# Altium footprint library CONN_HDR_2.54MM_RA_SMD.PcbLib: 56 footprints (part 2 of 4)
Each footprint in its own frame and in the unit in brackets; x right, y up, seen from the top. Pads: shape width x height; smd on the part's side, far side on the other; paste and mask are expansions set on the pad; w line width, h text height; cw(c..) or ccw(c..) is an arc to the next point about the centre after c.
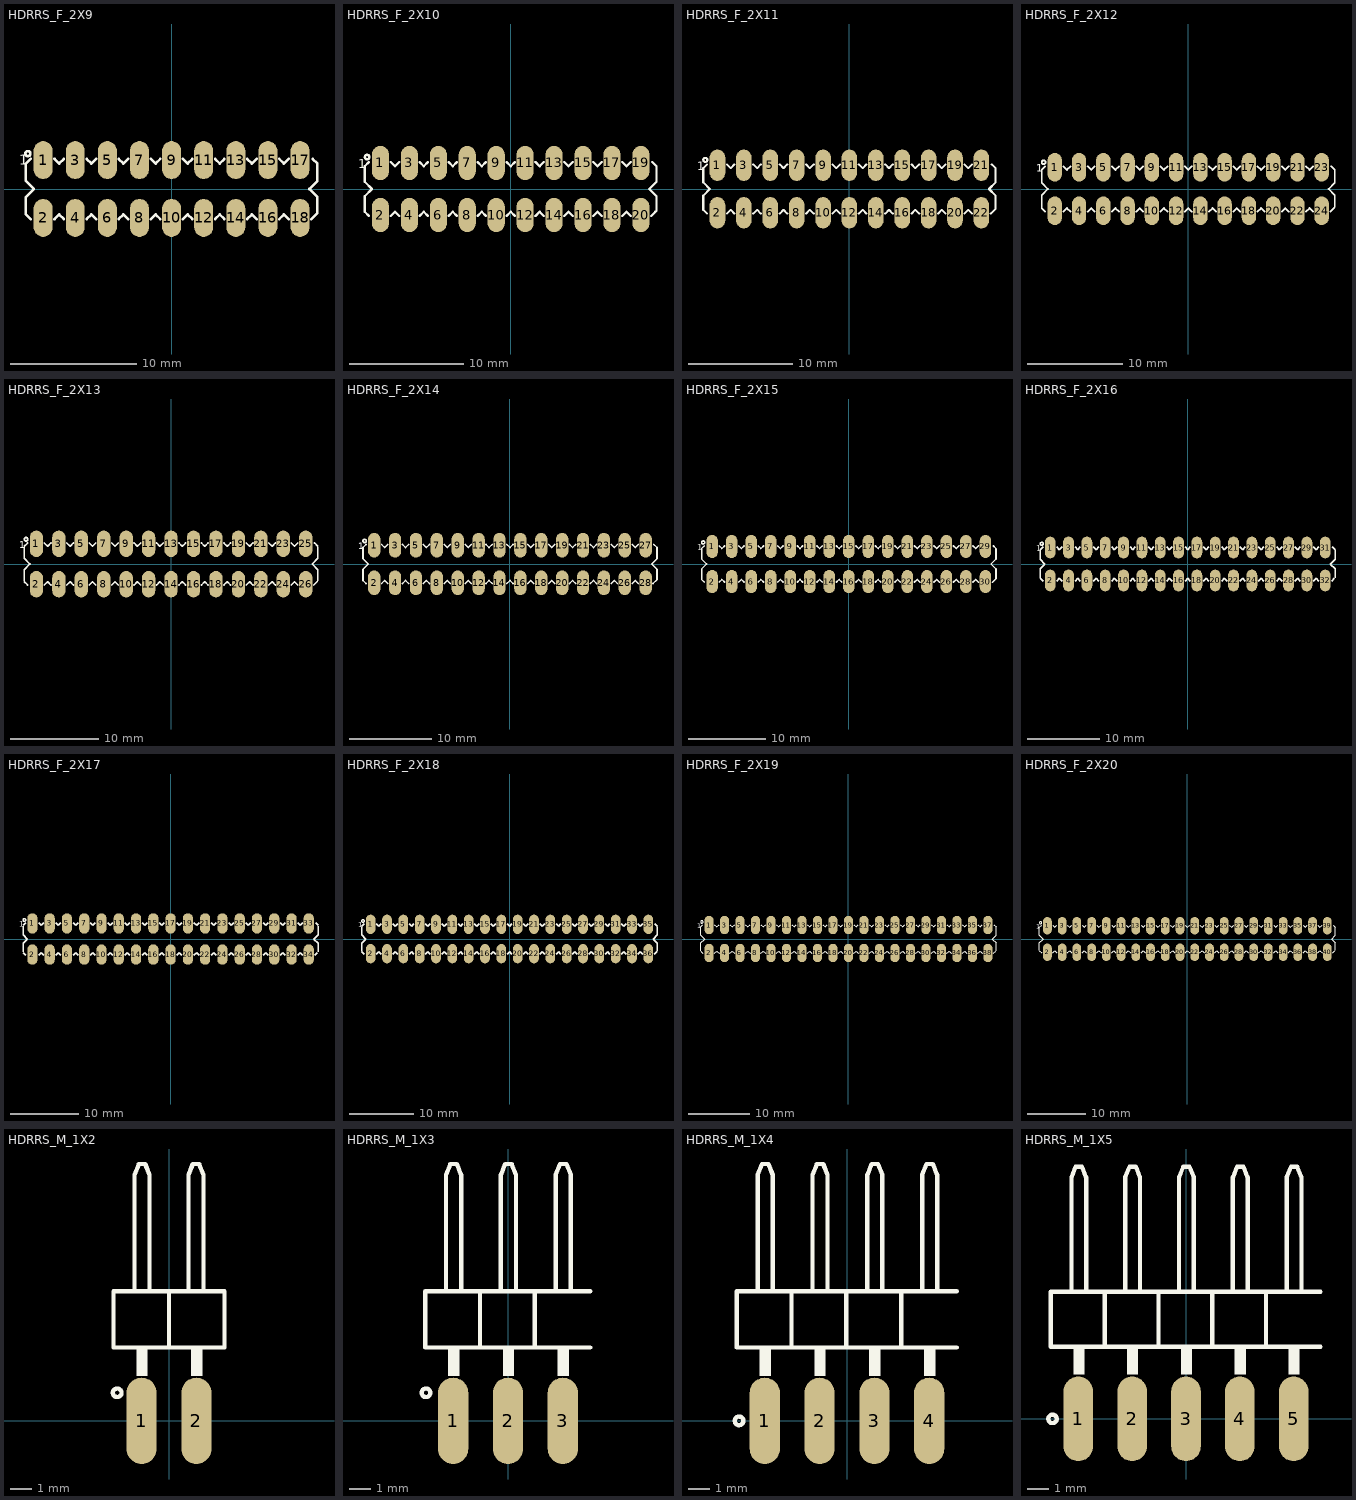
[diagram p1: the footprints below, top view; thin cyan lines are the x and y axes]

## HDRRS_F_2X9 [mm] "HEADER, 2.54mm, 2 Rows, Right Angle, Female, SMD"
pads (18):
  oval 1.5x3 smd: 1(-10.16,2.286) 2(-10.16,-2.286) 3(-7.62,2.286) 4(-7.62,-2.286) 5(-5.08,2.286) 6(-5.08,-2.286) 7(-2.54,2.286) 8(-2.54,-2.286) 9(0,2.286) 10(0,-2.286) 11(2.54,2.286) 12(2.54,-2.286) 13(5.08,2.286) 14(5.08,-2.286) 15(7.62,2.286) 16(7.62,-2.286) 17(10.16,2.286) 18(10.16,-2.286)
Top Overlay:
  circle w0.2: c-11.37,2.8 r0.2
  lines w0.2: -11.53,-2.005 -11.157,-2.378 ; -11.53,-1.905 -11.53,-0.635 -10.895,0 -11.53,0.635 -11.53,1.905 ; -11.53,2.005 -11.157,2.378 ; -9.263,-2.378 -8.89,-2.005 -8.517,-2.378 ; -9.263,2.378 -8.89,2.005 -8.517,2.378 ; -6.723,-2.378 -6.35,-2.005 -5.977,-2.378 ; -6.723,2.378 -6.35,2.005 -5.977,2.378 ; -4.183,-2.378 -3.81,-2.005 -3.437,-2.378 ; -4.183,2.378 -3.81,2.005 -3.437,2.378 ; -1.643,-2.378 -1.27,-2.005 -0.897,-2.378 ; -1.643,2.378 -1.27,2.005 -0.897,2.378 ; 0.897,-2.378 1.27,-2.005 1.643,-2.378 ; 0.897,2.378 1.27,2.005 1.643,2.378 ; 3.437,-2.378 3.81,-2.005 4.183,-2.378 ; 3.437,2.378 3.81,2.005 4.183,2.378 ; 5.977,-2.378 6.35,-2.005 6.723,-2.378 ; 5.977,2.378 6.35,2.005 6.723,2.378 ; 8.517,-2.378 8.89,-2.005 9.263,-2.378 ; 8.517,2.378 8.89,2.005 9.263,2.378 ; 11.057,-2.378 11.43,-2.005 ; 11.157,2.378 11.53,2.005 ; 11.53,-1.905 11.53,-0.635 10.895,0 11.53,0.635 11.53,1.905
  text "1" at -12.07,1.9 h0.8
3D body "BB02-LE202-06.step": height 4.93, standoff -0.07, extent 3.593,-3.005 11.581,12.295
3D body "BB02-LE202-06.step": height 4.93, standoff -0.07, extent -4.027,-3.005 3.961,12.295
3D body "BB02-LE202-06.step": height 4.93, standoff -0.07, extent -11.647,-3.005 -3.659,12.295

## HDRRS_F_2X10 [mm] "HEADER, 2.54mm, 2 Rows, Right Angle, Female, SMD"
pads (20):
  oval 1.5x3 smd: 1(-11.43,2.286) 2(-11.43,-2.286) 3(-8.89,2.286) 4(-8.89,-2.286) 5(-6.35,2.286) 6(-6.35,-2.286) 7(-3.81,2.286) 8(-3.81,-2.286) 9(-1.27,2.286) 10(-1.27,-2.286) 11(1.27,2.286) 12(1.27,-2.286) 13(3.81,2.286) 14(3.81,-2.286) 15(6.35,2.286) 16(6.35,-2.286) 17(8.89,2.286) 18(8.89,-2.286) 19(11.43,2.286) 20(11.43,-2.286)
Top Overlay:
  circle w0.2: c-12.6,2.8 r0.2
  lines w0.2: -12.8,-2.005 -12.427,-2.378 ; -12.8,-1.905 -12.8,-0.635 -12.165,0 -12.8,0.635 -12.8,1.905 ; -12.8,2.005 -12.427,2.378 ; -10.533,-2.378 -10.16,-2.005 -9.787,-2.378 ; -10.533,2.378 -10.16,2.005 -9.787,2.378 ; -7.993,-2.378 -7.62,-2.005 -7.247,-2.378 ; -7.993,2.378 -7.62,2.005 -7.247,2.378 ; -5.453,-2.378 -5.08,-2.005 -4.707,-2.378 ; -5.453,2.378 -5.08,2.005 -4.707,2.378 ; -2.913,-2.378 -2.54,-2.005 -2.167,-2.378 ; -2.913,2.378 -2.54,2.005 -2.167,2.378 ; -0.373,-2.378 0,-2.005 0.373,-2.378 ; -0.373,2.378 0,2.005 0.373,2.378 ; 2.167,-2.378 2.54,-2.005 2.913,-2.378 ; 2.167,2.378 2.54,2.005 2.913,2.378 ; 4.707,-2.378 5.08,-2.005 5.453,-2.378 ; 4.707,2.378 5.08,2.005 5.453,2.378 ; 7.247,-2.378 7.62,-2.005 7.993,-2.378 ; 7.247,2.378 7.62,2.005 7.993,2.378 ; 9.787,-2.378 10.16,-2.005 10.533,-2.378 ; 9.787,2.378 10.16,2.005 10.533,2.378 ; 12.327,-2.378 12.7,-2.005 ; 12.427,2.378 12.8,2.005 ; 12.8,-1.905 12.8,-0.635 12.165,0 12.8,0.635 12.8,1.905
  text "1" at -13.4,1.8 h0.8
3D body "BB02-LE202-04.step": height 4.93, standoff -0.07, extent 7.403,-3.005 12.917,12.295
3D body "BB02-LE202-04.step": height 4.93, standoff -0.07, extent 2.323,-3.005 7.837,12.295
3D body "BB02-LE202-04.step": height 4.93, standoff -0.07, extent -2.757,-3.005 2.757,12.295
3D body "BB02-LE202-04.step": height 4.93, standoff -0.07, extent -7.837,-3.005 -2.323,12.295
3D body "BB02-LE202-04.step": height 4.93, standoff -0.07, extent -12.917,-3.005 -7.403,12.295

## HDRRS_F_2X11 [mm] "HEADER, 2.54mm, 2 Rows, Right Angle, Female, SMD"
pads (22):
  oval 1.5x3 smd: 1(-12.7,2.286) 2(-12.7,-2.286) 3(-10.16,2.286) 4(-10.16,-2.286) 5(-7.62,2.286) 6(-7.62,-2.286) 7(-5.08,2.286) 8(-5.08,-2.286) 9(-2.54,2.286) 10(-2.54,-2.286) 11(0,2.286) 12(0,-2.286) 13(2.54,2.286) 14(2.54,-2.286) 15(5.08,2.286) 16(5.08,-2.286) 17(7.62,2.286) 18(7.62,-2.286) 19(10.16,2.286) 20(10.16,-2.286) 21(12.7,2.286) 22(12.7,-2.286)
Top Overlay:
  circle w0.2: c-13.87,2.8 r0.2
  lines w0.2: -14.07,-2.005 -13.697,-2.378 ; -14.07,-1.905 -14.07,-0.635 -13.435,0 -14.07,0.635 -14.07,1.905 ; -14.07,2.005 -13.697,2.378 ; -11.803,-2.378 -11.43,-2.005 -11.057,-2.378 ; -11.803,2.378 -11.43,2.005 -11.057,2.378 ; -9.263,-2.378 -8.89,-2.005 -8.517,-2.378 ; -9.263,2.378 -8.89,2.005 -8.517,2.378 ; -6.723,-2.378 -6.35,-2.005 -5.977,-2.378 ; -6.723,2.378 -6.35,2.005 -5.977,2.378 ; -4.183,-2.378 -3.81,-2.005 -3.437,-2.378 ; -4.183,2.378 -3.81,2.005 -3.437,2.378 ; -1.643,-2.378 -1.27,-2.005 -0.897,-2.378 ; -1.643,2.378 -1.27,2.005 -0.897,2.378 ; 0.897,-2.378 1.27,-2.005 1.643,-2.378 ; 0.897,2.378 1.27,2.005 1.643,2.378 ; 3.437,-2.378 3.81,-2.005 4.183,-2.378 ; 3.437,2.378 3.81,2.005 4.183,2.378 ; 5.977,-2.378 6.35,-2.005 6.723,-2.378 ; 5.977,2.378 6.35,2.005 6.723,2.378 ; 8.517,-2.378 8.89,-2.005 9.263,-2.378 ; 8.517,2.378 8.89,2.005 9.263,2.378 ; 11.057,-2.378 11.43,-2.005 11.803,-2.378 ; 11.057,2.378 11.43,2.005 11.803,2.378 ; 13.597,-2.378 13.97,-2.005 ; 13.697,2.378 14.07,2.005 ; 14.07,-1.905 14.07,-0.635 13.435,0 14.07,0.635 14.07,1.905
  text "1" at -14.67,1.8 h0.8
3D body "BB02-LE202-04.step": height 4.93, standoff -0.07, extent -14.187,-3.005 -8.673,12.295
3D body "BB02-LE202-04.step": height 4.93, standoff -0.07, extent -9.107,-3.005 -3.593,12.295
3D body "BB02-LE202-04.step": height 4.93, standoff -0.07, extent -4.027,-3.005 1.487,12.295
3D body "BB02-LE202-04.step": height 4.93, standoff -0.07, extent 1.053,-3.005 6.567,12.295
3D body "BB02-LE202-06.step": height 4.93, standoff -0.07, extent 6.133,-3.005 14.121,12.295

## HDRRS_F_2X12 [mm] "HEADER, 2.54mm, 2 Rows, Right Angle, Female, SMD"
pads (24):
  oval 1.5x3 smd: 1(-13.97,2.286) 2(-13.97,-2.286) 3(-11.43,2.286) 4(-11.43,-2.286) 5(-8.89,2.286) 6(-8.89,-2.286) 7(-6.35,2.286) 8(-6.35,-2.286) 9(-3.81,2.286) 10(-3.81,-2.286) 11(-1.27,2.286) 12(-1.27,-2.286) 13(1.27,2.286) 14(1.27,-2.286) 15(3.81,2.286) 16(3.81,-2.286) 17(6.35,2.286) 18(6.35,-2.286) 19(8.89,2.286) 20(8.89,-2.286) 21(11.43,2.286) 22(11.43,-2.286) 23(13.97,2.286) 24(13.97,-2.286)
Top Overlay:
  circle w0.2: c-15.14,2.8 r0.2
  lines w0.2: -15.34,-2.005 -14.967,-2.378 ; -15.34,-1.905 -15.34,-0.635 -14.705,0 -15.34,0.635 -15.34,1.905 ; -15.34,2.005 -14.967,2.378 ; -13.073,-2.378 -12.7,-2.005 -12.327,-2.378 ; -13.073,2.378 -12.7,2.005 -12.327,2.378 ; -10.533,-2.378 -10.16,-2.005 -9.787,-2.378 ; -10.533,2.378 -10.16,2.005 -9.787,2.378 ; -7.993,-2.378 -7.62,-2.005 -7.247,-2.378 ; -7.993,2.378 -7.62,2.005 -7.247,2.378 ; -5.453,-2.378 -5.08,-2.005 -4.707,-2.378 ; -5.453,2.378 -5.08,2.005 -4.707,2.378 ; -2.913,-2.378 -2.54,-2.005 -2.167,-2.378 ; -2.913,2.378 -2.54,2.005 -2.167,2.378 ; -0.373,-2.378 0,-2.005 0.373,-2.378 ; -0.373,2.378 0,2.005 0.373,2.378 ; 2.167,-2.378 2.54,-2.005 2.913,-2.378 ; 2.167,2.378 2.54,2.005 2.913,2.378 ; 4.707,-2.378 5.08,-2.005 5.453,-2.378 ; 4.707,2.378 5.08,2.005 5.453,2.378 ; 7.247,-2.378 7.62,-2.005 7.993,-2.378 ; 7.247,2.378 7.62,2.005 7.993,2.378 ; 9.787,-2.378 10.16,-2.005 10.533,-2.378 ; 9.787,2.378 10.16,2.005 10.533,2.378 ; 12.327,-2.378 12.7,-2.005 13.073,-2.378 ; 12.327,2.378 12.7,2.005 13.073,2.378 ; 14.867,-2.378 15.24,-2.005 ; 14.967,2.378 15.34,2.005 ; 15.34,-1.905 15.34,-0.635 14.705,0 15.34,0.635 15.34,1.905
  text "1" at -15.94,1.8 h0.8
3D body "BB02-LE202-04.step": height 4.93, standoff -0.07, extent 4.863,-3.005 10.377,12.295
3D body "BB02-LE202-04.step": height 4.93, standoff -0.07, extent -0.217,-3.005 5.297,12.295
3D body "BB02-LE202-04.step": height 4.93, standoff -0.07, extent -5.297,-3.005 0.217,12.295
3D body "BB02-LE202-04.step": height 4.93, standoff -0.07, extent -10.377,-3.005 -4.863,12.295
3D body "BB02-LE202-04.step": height 4.93, standoff -0.07, extent -15.457,-3.005 -9.943,12.295
3D body "BB02-LE202-04.step": height 4.93, standoff -0.07, extent 9.943,-3.005 15.457,12.295

## HDRRS_F_2X13 [mm] "HEADER, 2.54mm, 2 Rows, Right Angle, Female, SMD"
pads (26):
  oval 1.5x3 smd: 1(-15.24,2.286) 2(-15.24,-2.286) 3(-12.7,2.286) 4(-12.7,-2.286) 5(-10.16,2.286) 6(-10.16,-2.286) 7(-7.62,2.286) 8(-7.62,-2.286) 9(-5.08,2.286) 10(-5.08,-2.286) 11(-2.54,2.286) 12(-2.54,-2.286) 13(0,2.286) 14(0,-2.286) 15(2.54,2.286) 16(2.54,-2.286) 17(5.08,2.286) 18(5.08,-2.286) 19(7.62,2.286) 20(7.62,-2.286) 21(10.16,2.286) 22(10.16,-2.286) 23(12.7,2.286) 24(12.7,-2.286) 25(15.24,2.286) 26(15.24,-2.286)
Top Overlay:
  circle w0.2: c-16.41,2.8 r0.2
  lines w0.2: -16.61,-2.005 -16.237,-2.378 ; -16.61,-1.905 -16.61,-0.635 -15.975,0 -16.61,0.635 -16.61,1.905 ; -16.61,2.005 -16.237,2.378 ; -14.343,-2.378 -13.97,-2.005 -13.597,-2.378 ; -14.343,2.378 -13.97,2.005 -13.597,2.378 ; -11.803,-2.378 -11.43,-2.005 -11.057,-2.378 ; -11.803,2.378 -11.43,2.005 -11.057,2.378 ; -9.263,-2.378 -8.89,-2.005 -8.517,-2.378 ; -9.263,2.378 -8.89,2.005 -8.517,2.378 ; -6.723,-2.378 -6.35,-2.005 -5.977,-2.378 ; -6.723,2.378 -6.35,2.005 -5.977,2.378 ; -4.183,-2.378 -3.81,-2.005 -3.437,-2.378 ; -4.183,2.378 -3.81,2.005 -3.437,2.378 ; -1.643,-2.378 -1.27,-2.005 -0.897,-2.378 ; -1.643,2.378 -1.27,2.005 -0.897,2.378 ; 0.897,-2.378 1.27,-2.005 1.643,-2.378 ; 0.897,2.378 1.27,2.005 1.643,2.378 ; 3.437,-2.378 3.81,-2.005 4.183,-2.378 ; 3.437,2.378 3.81,2.005 4.183,2.378 ; 5.977,-2.378 6.35,-2.005 6.723,-2.378 ; 5.977,2.378 6.35,2.005 6.723,2.378 ; 8.517,-2.378 8.89,-2.005 9.263,-2.378 ; 8.517,2.378 8.89,2.005 9.263,2.378 ; 11.057,-2.378 11.43,-2.005 11.803,-2.378 ; 11.057,2.378 11.43,2.005 11.803,2.378 ; 13.597,-2.378 13.97,-2.005 14.343,-2.378 ; 13.597,2.378 13.97,2.005 14.343,2.378 ; 16.137,-2.378 16.51,-2.005 ; 16.237,2.378 16.61,2.005 ; 16.61,-1.905 16.61,-0.635 15.975,0 16.61,0.635 16.61,1.905
  text "1" at -17.21,1.8 h0.8
3D body "BB02-LE202-06.step": height 4.93, standoff -0.07, extent 8.673,-3.005 16.661,12.295
3D body "BB02-LE202-04.step": height 4.93, standoff -0.07, extent 3.593,-3.005 9.107,12.295
3D body "BB02-LE202-04.step": height 4.93, standoff -0.07, extent -1.487,-3.005 4.027,12.295
3D body "BB02-LE202-04.step": height 4.93, standoff -0.07, extent -6.567,-3.005 -1.053,12.295
3D body "BB02-LE202-04.step": height 4.93, standoff -0.07, extent -11.647,-3.005 -6.133,12.295
3D body "BB02-LE202-04.step": height 4.93, standoff -0.07, extent -16.727,-3.005 -11.213,12.295

## HDRRS_F_2X14 [mm] "HEADER, 2.54mm, 2 Rows, Right Angle, Female, SMD"
pads (28):
  oval 1.5x3 smd: 1(-16.51,2.286) 2(-16.51,-2.286) 3(-13.97,2.286) 4(-13.97,-2.286) 5(-11.43,2.286) 6(-11.43,-2.286) 7(-8.89,2.286) 8(-8.89,-2.286) 9(-6.35,2.286) 10(-6.35,-2.286) 11(-3.81,2.286) 12(-3.81,-2.286) 13(-1.27,2.286) 14(-1.27,-2.286) 15(1.27,2.286) 16(1.27,-2.286) 17(3.81,2.286) 18(3.81,-2.286) 19(6.35,2.286) 20(6.35,-2.286) 21(8.89,2.286) 22(8.89,-2.286) 23(11.43,2.286) 24(11.43,-2.286) 25(13.97,2.286) 26(13.97,-2.286) 27(16.51,2.286) 28(16.51,-2.286)
Top Overlay:
  circle w0.2: c-17.68,2.8 r0.2
  lines w0.2: -17.88,-2.005 -17.507,-2.378 ; -17.88,-1.905 -17.88,-0.635 -17.245,0 -17.88,0.635 -17.88,1.905 ; -17.88,2.005 -17.507,2.378 ; -15.613,-2.378 -15.24,-2.005 -14.867,-2.378 ; -15.613,2.378 -15.24,2.005 -14.867,2.378 ; -13.073,-2.378 -12.7,-2.005 -12.327,-2.378 ; -13.073,2.378 -12.7,2.005 -12.327,2.378 ; -10.533,-2.378 -10.16,-2.005 -9.787,-2.378 ; -10.533,2.378 -10.16,2.005 -9.787,2.378 ; -7.993,-2.378 -7.62,-2.005 -7.247,-2.378 ; -7.993,2.378 -7.62,2.005 -7.247,2.378 ; -5.453,-2.378 -5.08,-2.005 -4.707,-2.378 ; -5.453,2.378 -5.08,2.005 -4.707,2.378 ; -2.913,-2.378 -2.54,-2.005 -2.167,-2.378 ; -2.913,2.378 -2.54,2.005 -2.167,2.378 ; -0.373,-2.378 0,-2.005 0.373,-2.378 ; -0.373,2.378 0,2.005 0.373,2.378 ; 2.167,-2.378 2.54,-2.005 2.913,-2.378 ; 2.167,2.378 2.54,2.005 2.913,2.378 ; 4.707,-2.378 5.08,-2.005 5.453,-2.378 ; 4.707,2.378 5.08,2.005 5.453,2.378 ; 7.247,-2.378 7.62,-2.005 7.993,-2.378 ; 7.247,2.378 7.62,2.005 7.993,2.378 ; 9.787,-2.378 10.16,-2.005 10.533,-2.378 ; 9.787,2.378 10.16,2.005 10.533,2.378 ; 12.327,-2.378 12.7,-2.005 13.073,-2.378 ; 12.327,2.378 12.7,2.005 13.073,2.378 ; 14.867,-2.378 15.24,-2.005 15.613,-2.378 ; 14.867,2.378 15.24,2.005 15.613,2.378 ; 17.407,-2.378 17.78,-2.005 ; 17.507,2.378 17.88,2.005 ; 17.88,-1.905 17.88,-0.635 17.245,0 17.88,0.635 17.88,1.905
  text "1" at -18.48,1.8 h0.8
3D body "BB02-LE202-04.step": height 4.93, standoff -0.07, extent 2.323,-3.005 7.837,12.295
3D body "BB02-LE202-04.step": height 4.93, standoff -0.07, extent -2.757,-3.005 2.757,12.295
3D body "BB02-LE202-04.step": height 4.93, standoff -0.07, extent -7.837,-3.005 -2.323,12.295
3D body "BB02-LE202-04.step": height 4.93, standoff -0.07, extent -12.917,-3.005 -7.403,12.295
3D body "BB02-LE202-04.step": height 4.93, standoff -0.07, extent -17.997,-3.005 -12.483,12.295
3D body "BB02-LE202-04.step": height 4.93, standoff -0.07, extent 7.403,-3.005 12.917,12.295
3D body "BB02-LE202-04.step": height 4.93, standoff -0.07, extent 12.483,-3.005 17.997,12.295

## HDRRS_F_2X15 [mm] "HEADER, 2.54mm, 2 Rows, Right Angle, Female, SMD"
pads (30):
  oval 1.5x3 smd: 1(-17.78,2.286) 2(-17.78,-2.286) 3(-15.24,2.286) 4(-15.24,-2.286) 5(-12.7,2.286) 6(-12.7,-2.286) 7(-10.16,2.286) 8(-10.16,-2.286) 9(-7.62,2.286) 10(-7.62,-2.286) 11(-5.08,2.286) 12(-5.08,-2.286) 13(-2.54,2.286) 14(-2.54,-2.286) 15(0,2.286) 16(0,-2.286) 17(2.54,2.286) 18(2.54,-2.286) 19(5.08,2.286) 20(5.08,-2.286) 21(7.62,2.286) 22(7.62,-2.286) 23(10.16,2.286) 24(10.16,-2.286) 25(12.7,2.286) 26(12.7,-2.286) 27(15.24,2.286) 28(15.24,-2.286) 29(17.78,2.286) 30(17.78,-2.286)
Top Overlay:
  circle w0.2: c-18.95,2.8 r0.2
  lines w0.2: -19.15,-2.005 -18.777,-2.378 ; -19.15,-1.905 -19.15,-0.635 -18.515,0 -19.15,0.635 -19.15,1.905 ; -19.15,2.005 -18.777,2.378 ; -16.883,-2.378 -16.51,-2.005 -16.137,-2.378 ; -16.883,2.378 -16.51,2.005 -16.137,2.378 ; -14.343,-2.378 -13.97,-2.005 -13.597,-2.378 ; -14.343,2.378 -13.97,2.005 -13.597,2.378 ; -11.803,-2.378 -11.43,-2.005 -11.057,-2.378 ; -11.803,2.378 -11.43,2.005 -11.057,2.378 ; -9.263,-2.378 -8.89,-2.005 -8.517,-2.378 ; -9.263,2.378 -8.89,2.005 -8.517,2.378 ; -6.723,-2.378 -6.35,-2.005 -5.977,-2.378 ; -6.723,2.378 -6.35,2.005 -5.977,2.378 ; -4.183,-2.378 -3.81,-2.005 -3.437,-2.378 ; -4.183,2.378 -3.81,2.005 -3.437,2.378 ; -1.643,-2.378 -1.27,-2.005 -0.897,-2.378 ; -1.643,2.378 -1.27,2.005 -0.897,2.378 ; 0.897,-2.378 1.27,-2.005 1.643,-2.378 ; 0.897,2.378 1.27,2.005 1.643,2.378 ; 3.437,-2.378 3.81,-2.005 4.183,-2.378 ; 3.437,2.378 3.81,2.005 4.183,2.378 ; 5.977,-2.378 6.35,-2.005 6.723,-2.378 ; 5.977,2.378 6.35,2.005 6.723,2.378 ; 8.517,-2.378 8.89,-2.005 9.263,-2.378 ; 8.517,2.378 8.89,2.005 9.263,2.378 ; 11.057,-2.378 11.43,-2.005 11.803,-2.378 ; 11.057,2.378 11.43,2.005 11.803,2.378 ; 13.597,-2.378 13.97,-2.005 14.343,-2.378 ; 13.597,2.378 13.97,2.005 14.343,2.378 ; 16.137,-2.378 16.51,-2.005 16.883,-2.378 ; 16.137,2.378 16.51,2.005 16.883,2.378 ; 18.677,-2.378 19.05,-2.005 ; 18.777,2.378 19.15,2.005 ; 19.15,-1.905 19.15,-0.635 18.515,0 19.15,0.635 19.15,1.905
  text "1" at -19.75,1.8 h0.8
3D body "BB02-LE202-04.step": height 4.93, standoff -0.07, extent 6.133,-3.005 11.647,12.295
3D body "BB02-LE202-04.step": height 4.93, standoff -0.07, extent -19.267,-3.005 -13.753,12.295
3D body "BB02-LE202-04.step": height 4.93, standoff -0.07, extent -14.187,-3.005 -8.673,12.295
3D body "BB02-LE202-04.step": height 4.93, standoff -0.07, extent -9.107,-3.005 -3.593,12.295
3D body "BB02-LE202-04.step": height 4.93, standoff -0.07, extent -4.027,-3.005 1.487,12.295
3D body "BB02-LE202-04.step": height 4.93, standoff -0.07, extent 1.053,-3.005 6.567,12.295
3D body "BB02-LE202-06.step": height 4.93, standoff -0.07, extent 11.213,-3.005 19.201,12.295

## HDRRS_F_2X16 [mm] "HEADER, 2.54mm, 2 Rows, Right Angle, Female, SMD"
pads (32):
  oval 1.5x3 smd: 1(-19.05,2.286) 2(-19.05,-2.286) 3(-16.51,2.286) 4(-16.51,-2.286) 5(-13.97,2.286) 6(-13.97,-2.286) 7(-11.43,2.286) 8(-11.43,-2.286) 9(-8.89,2.286) 10(-8.89,-2.286) 11(-6.35,2.286) 12(-6.35,-2.286) 13(-3.81,2.286) 14(-3.81,-2.286) 15(-1.27,2.286) 16(-1.27,-2.286) 17(1.27,2.286) 18(1.27,-2.286) 19(3.81,2.286) 20(3.81,-2.286) 21(6.35,2.286) 22(6.35,-2.286) 23(8.89,2.286) 24(8.89,-2.286) 25(11.43,2.286) 26(11.43,-2.286) 27(13.97,2.286) 28(13.97,-2.286) 29(16.51,2.286) 30(16.51,-2.286) 31(19.05,2.286) 32(19.05,-2.286)
Top Overlay:
  circle w0.2: c-20.22,2.8 r0.2
  lines w0.2: -20.42,-2.005 -20.047,-2.378 ; -20.42,-1.905 -20.42,-0.635 -19.785,0 -20.42,0.635 -20.42,1.905 ; -20.42,2.005 -20.047,2.378 ; -18.153,-2.378 -17.78,-2.005 -17.407,-2.378 ; -18.153,2.378 -17.78,2.005 -17.407,2.378 ; -15.613,-2.378 -15.24,-2.005 -14.867,-2.378 ; -15.613,2.378 -15.24,2.005 -14.867,2.378 ; -13.073,-2.378 -12.7,-2.005 -12.327,-2.378 ; -13.073,2.378 -12.7,2.005 -12.327,2.378 ; -10.533,-2.378 -10.16,-2.005 -9.787,-2.378 ; -10.533,2.378 -10.16,2.005 -9.787,2.378 ; -7.993,-2.378 -7.62,-2.005 -7.247,-2.378 ; -7.993,2.378 -7.62,2.005 -7.247,2.378 ; -5.453,-2.378 -5.08,-2.005 -4.707,-2.378 ; -5.453,2.378 -5.08,2.005 -4.707,2.378 ; -2.913,-2.378 -2.54,-2.005 -2.167,-2.378 ; -2.913,2.378 -2.54,2.005 -2.167,2.378 ; -0.373,-2.378 0,-2.005 0.373,-2.378 ; -0.373,2.378 0,2.005 0.373,2.378 ; 2.167,-2.378 2.54,-2.005 2.913,-2.378 ; 2.167,2.378 2.54,2.005 2.913,2.378 ; 4.707,-2.378 5.08,-2.005 5.453,-2.378 ; 4.707,2.378 5.08,2.005 5.453,2.378 ; 7.247,-2.378 7.62,-2.005 7.993,-2.378 ; 7.247,2.378 7.62,2.005 7.993,2.378 ; 9.787,-2.378 10.16,-2.005 10.533,-2.378 ; 9.787,2.378 10.16,2.005 10.533,2.378 ; 12.327,-2.378 12.7,-2.005 13.073,-2.378 ; 12.327,2.378 12.7,2.005 13.073,2.378 ; 14.867,-2.378 15.24,-2.005 15.613,-2.378 ; 14.867,2.378 15.24,2.005 15.613,2.378 ; 17.407,-2.378 17.78,-2.005 18.153,-2.378 ; 17.407,2.378 17.78,2.005 18.153,2.378 ; 19.947,-2.378 20.32,-2.005 ; 20.047,2.378 20.42,2.005 ; 20.42,-1.905 20.42,-0.635 19.785,0 20.42,0.635 20.42,1.905
  text "1" at -21.02,1.8 h0.8
3D body "BB02-LE202-04.step": height 4.93, standoff -0.07, extent -0.217,-3.005 5.297,12.295
3D body "BB02-LE202-04.step": height 4.93, standoff -0.07, extent -5.297,-3.005 0.217,12.295
3D body "BB02-LE202-04.step": height 4.93, standoff -0.07, extent -10.377,-3.005 -4.863,12.295
3D body "BB02-LE202-04.step": height 4.93, standoff -0.07, extent -15.457,-3.005 -9.943,12.295
3D body "BB02-LE202-04.step": height 4.93, standoff -0.07, extent -20.537,-3.005 -15.023,12.295
3D body "BB02-LE202-04.step": height 4.93, standoff -0.07, extent 4.863,-3.005 10.377,12.295
3D body "BB02-LE202-04.step": height 4.93, standoff -0.07, extent 9.943,-3.005 15.457,12.295
3D body "BB02-LE202-04.step": height 4.93, standoff -0.07, extent 15.023,-3.005 20.537,12.295

## HDRRS_F_2X17 [mm] "HEADER, 2.54mm, 2 Rows, Right Angle, Female, SMD"
pads (34):
  oval 1.5x3 smd: 1(-20.32,2.286) 2(-20.32,-2.286) 3(-17.78,2.286) 4(-17.78,-2.286) 5(-15.24,2.286) 6(-15.24,-2.286) 7(-12.7,2.286) 8(-12.7,-2.286) 9(-10.16,2.286) 10(-10.16,-2.286) 11(-7.62,2.286) 12(-7.62,-2.286) 13(-5.08,2.286) 14(-5.08,-2.286) 15(-2.54,2.286) 16(-2.54,-2.286) 17(0,2.286) 18(0,-2.286) 19(2.54,2.286) 20(2.54,-2.286) 21(5.08,2.286) 22(5.08,-2.286) 23(7.62,2.286) 24(7.62,-2.286) 25(10.16,2.286) 26(10.16,-2.286) 27(12.7,2.286) 28(12.7,-2.286) 29(15.24,2.286) 30(15.24,-2.286) 31(17.78,2.286) 32(17.78,-2.286) 33(20.32,2.286) 34(20.32,-2.286)
Top Overlay:
  circle w0.2: c-21.49,2.8 r0.2
  lines w0.2: -21.69,-2.005 -21.317,-2.378 ; -21.69,-1.905 -21.69,-0.635 -21.055,0 -21.69,0.635 -21.69,1.905 ; -21.69,2.005 -21.317,2.378 ; -19.423,-2.378 -19.05,-2.005 -18.677,-2.378 ; -19.423,2.378 -19.05,2.005 -18.677,2.378 ; -16.883,-2.378 -16.51,-2.005 -16.137,-2.378 ; -16.883,2.378 -16.51,2.005 -16.137,2.378 ; -14.343,-2.378 -13.97,-2.005 -13.597,-2.378 ; -14.343,2.378 -13.97,2.005 -13.597,2.378 ; -11.803,-2.378 -11.43,-2.005 -11.057,-2.378 ; -11.803,2.378 -11.43,2.005 -11.057,2.378 ; -9.263,-2.378 -8.89,-2.005 -8.517,-2.378 ; -9.263,2.378 -8.89,2.005 -8.517,2.378 ; -6.723,-2.378 -6.35,-2.005 -5.977,-2.378 ; -6.723,2.378 -6.35,2.005 -5.977,2.378 ; -4.183,-2.378 -3.81,-2.005 -3.437,-2.378 ; -4.183,2.378 -3.81,2.005 -3.437,2.378 ; -1.643,-2.378 -1.27,-2.005 -0.897,-2.378 ; -1.643,2.378 -1.27,2.005 -0.897,2.378 ; 0.897,-2.378 1.27,-2.005 1.643,-2.378 ; 0.897,2.378 1.27,2.005 1.643,2.378 ; 3.437,-2.378 3.81,-2.005 4.183,-2.378 ; 3.437,2.378 3.81,2.005 4.183,2.378 ; 5.977,-2.378 6.35,-2.005 6.723,-2.378 ; 5.977,2.378 6.35,2.005 6.723,2.378 ; 8.517,-2.378 8.89,-2.005 9.263,-2.378 ; 8.517,2.378 8.89,2.005 9.263,2.378 ; 11.057,-2.378 11.43,-2.005 11.803,-2.378 ; 11.057,2.378 11.43,2.005 11.803,2.378 ; 13.597,-2.378 13.97,-2.005 14.343,-2.378 ; 13.597,2.378 13.97,2.005 14.343,2.378 ; 16.137,-2.378 16.51,-2.005 16.883,-2.378 ; 16.137,2.378 16.51,2.005 16.883,2.378 ; 18.677,-2.378 19.05,-2.005 19.423,-2.378 ; 18.677,2.378 19.05,2.005 19.423,2.378 ; 21.217,-2.378 21.59,-2.005 ; 21.317,2.378 21.69,2.005 ; 21.69,-1.905 21.69,-0.635 21.055,0 21.69,0.635 21.69,1.905
  text "1" at -22.29,1.8 h0.8
3D body "BB02-LE202-04.step": height 4.93, standoff -0.07, extent -1.487,-3.005 4.027,12.295
3D body "BB02-LE202-04.step": height 4.93, standoff -0.07, extent -6.567,-3.005 -1.053,12.295
3D body "BB02-LE202-04.step": height 4.93, standoff -0.07, extent -11.647,-3.005 -6.133,12.295
3D body "BB02-LE202-04.step": height 4.93, standoff -0.07, extent -16.727,-3.005 -11.213,12.295
3D body "BB02-LE202-04.step": height 4.93, standoff -0.07, extent -21.807,-3.005 -16.293,12.295
3D body "BB02-LE202-04.step": height 4.93, standoff -0.07, extent 3.593,-3.005 9.107,12.295
3D body "BB02-LE202-04.step": height 4.93, standoff -0.07, extent 8.673,-3.005 14.187,12.295
3D body "BB02-LE202-06.step": height 4.93, standoff -0.07, extent 13.753,-3.005 21.741,12.295

## HDRRS_F_2X18 [mm] "HEADER, 2.54mm, 2 Rows, Right Angle, Female, SMD"
pads (36):
  oval 1.5x3 smd: 1(-21.59,2.286) 2(-21.59,-2.286) 3(-19.05,2.286) 4(-19.05,-2.286) 5(-16.51,2.286) 6(-16.51,-2.286) 7(-13.97,2.286) 8(-13.97,-2.286) 9(-11.43,2.286) 10(-11.43,-2.286) 11(-8.89,2.286) 12(-8.89,-2.286) 13(-6.35,2.286) 14(-6.35,-2.286) 15(-3.81,2.286) 16(-3.81,-2.286) 17(-1.27,2.286) 18(-1.27,-2.286) 19(1.27,2.286) 20(1.27,-2.286) 21(3.81,2.286) 22(3.81,-2.286) 23(6.35,2.286) 24(6.35,-2.286) 25(8.89,2.286) 26(8.89,-2.286) 27(11.43,2.286) 28(11.43,-2.286) 29(13.97,2.286) 30(13.97,-2.286) 31(16.51,2.286) 32(16.51,-2.286) 33(19.05,2.286) 34(19.05,-2.286) 35(21.59,2.286) 36(21.59,-2.286)
Top Overlay:
  circle w0.2: c-22.76,2.8 r0.2
  lines w0.2: -22.96,-2.005 -22.587,-2.378 ; -22.96,-1.905 -22.96,-0.635 -22.325,0 -22.96,0.635 -22.96,1.905 ; -22.96,2.005 -22.587,2.378 ; -20.693,-2.378 -20.32,-2.005 -19.947,-2.378 ; -20.693,2.378 -20.32,2.005 -19.947,2.378 ; -18.153,-2.378 -17.78,-2.005 -17.407,-2.378 ; -18.153,2.378 -17.78,2.005 -17.407,2.378 ; -15.613,-2.378 -15.24,-2.005 -14.867,-2.378 ; -15.613,2.378 -15.24,2.005 -14.867,2.378 ; -13.073,-2.378 -12.7,-2.005 -12.327,-2.378 ; -13.073,2.378 -12.7,2.005 -12.327,2.378 ; -10.533,-2.378 -10.16,-2.005 -9.787,-2.378 ; -10.533,2.378 -10.16,2.005 -9.787,2.378 ; -7.993,-2.378 -7.62,-2.005 -7.247,-2.378 ; -7.993,2.378 -7.62,2.005 -7.247,2.378 ; -5.453,-2.378 -5.08,-2.005 -4.707,-2.378 ; -5.453,2.378 -5.08,2.005 -4.707,2.378 ; -2.913,-2.378 -2.54,-2.005 -2.167,-2.378 ; -2.913,2.378 -2.54,2.005 -2.167,2.378 ; -0.373,-2.378 0,-2.005 0.373,-2.378 ; -0.373,2.378 0,2.005 0.373,2.378 ; 2.167,-2.378 2.54,-2.005 2.913,-2.378 ; 2.167,2.378 2.54,2.005 2.913,2.378 ; 4.707,-2.378 5.08,-2.005 5.453,-2.378 ; 4.707,2.378 5.08,2.005 5.453,2.378 ; 7.247,-2.378 7.62,-2.005 7.993,-2.378 ; 7.247,2.378 7.62,2.005 7.993,2.378 ; 9.787,-2.378 10.16,-2.005 10.533,-2.378 ; 9.787,2.378 10.16,2.005 10.533,2.378 ; 12.327,-2.378 12.7,-2.005 13.073,-2.378 ; 12.327,2.378 12.7,2.005 13.073,2.378 ; 14.867,-2.378 15.24,-2.005 15.613,-2.378 ; 14.867,2.378 15.24,2.005 15.613,2.378 ; 17.407,-2.378 17.78,-2.005 18.153,-2.378 ; 17.407,2.378 17.78,2.005 18.153,2.378 ; 19.947,-2.378 20.32,-2.005 20.693,-2.378 ; 19.947,2.378 20.32,2.005 20.693,2.378 ; 22.487,-2.378 22.86,-2.005 ; 22.587,2.378 22.96,2.005 ; 22.96,-1.905 22.96,-0.635 22.325,0 22.96,0.635 22.96,1.905
  text "1" at -23.56,1.8 h0.8
3D body "BB02-LE202-04.step": height 4.93, standoff -0.07, extent -2.757,-3.005 2.757,12.295
3D body "BB02-LE202-04.step": height 4.93, standoff -0.07, extent -7.837,-3.005 -2.323,12.295
3D body "BB02-LE202-04.step": height 4.93, standoff -0.07, extent -12.917,-3.005 -7.403,12.295
3D body "BB02-LE202-04.step": height 4.93, standoff -0.07, extent -17.997,-3.005 -12.483,12.295
3D body "BB02-LE202-04.step": height 4.93, standoff -0.07, extent -23.077,-3.005 -17.563,12.295
3D body "BB02-LE202-04.step": height 4.93, standoff -0.07, extent 2.323,-3.005 7.837,12.295
3D body "BB02-LE202-04.step": height 4.93, standoff -0.07, extent 7.403,-3.005 12.917,12.295
3D body "BB02-LE202-04.step": height 4.93, standoff -0.07, extent 12.483,-3.005 17.997,12.295
3D body "BB02-LE202-04.step": height 4.93, standoff -0.07, extent 17.563,-3.005 23.077,12.295

## HDRRS_F_2X19 [mm] "HEADER, 2.54mm, 2 Rows, Right Angle, Female, SMD"
pads (38):
  oval 1.5x3 smd: 1(-22.86,2.286) 2(-22.86,-2.286) 3(-20.32,2.286) 4(-20.32,-2.286) 5(-17.78,2.286) 6(-17.78,-2.286) 7(-15.24,2.286) 8(-15.24,-2.286) 9(-12.7,2.286) 10(-12.7,-2.286) 11(-10.16,2.286) 12(-10.16,-2.286) 13(-7.62,2.286) 14(-7.62,-2.286) 15(-5.08,2.286) 16(-5.08,-2.286) 17(-2.54,2.286) 18(-2.54,-2.286) 19(0,2.286) 20(0,-2.286) 21(2.54,2.286) 22(2.54,-2.286) 23(5.08,2.286) 24(5.08,-2.286) 25(7.62,2.286) 26(7.62,-2.286) 27(10.16,2.286) 28(10.16,-2.286) 29(12.7,2.286) 30(12.7,-2.286) 31(15.24,2.286) 32(15.24,-2.286) 33(17.78,2.286) 34(17.78,-2.286) 35(20.32,2.286) 36(20.32,-2.286) 37(22.86,2.286) 38(22.86,-2.286)
Top Overlay:
  circle w0.2: c-24.03,2.8 r0.2
  lines w0.2: -24.23,-2.005 -23.857,-2.378 ; -24.23,-1.905 -24.23,-0.635 -23.595,0 -24.23,0.635 -24.23,1.905 ; -24.23,2.005 -23.857,2.378 ; -21.963,-2.378 -21.59,-2.005 -21.217,-2.378 ; -21.963,2.378 -21.59,2.005 -21.217,2.378 ; -19.423,-2.378 -19.05,-2.005 -18.677,-2.378 ; -19.423,2.378 -19.05,2.005 -18.677,2.378 ; -16.883,-2.378 -16.51,-2.005 -16.137,-2.378 ; -16.883,2.378 -16.51,2.005 -16.137,2.378 ; -14.343,-2.378 -13.97,-2.005 -13.597,-2.378 ; -14.343,2.378 -13.97,2.005 -13.597,2.378 ; -11.803,-2.378 -11.43,-2.005 -11.057,-2.378 ; -11.803,2.378 -11.43,2.005 -11.057,2.378 ; -9.263,-2.378 -8.89,-2.005 -8.517,-2.378 ; -9.263,2.378 -8.89,2.005 -8.517,2.378 ; -6.723,-2.378 -6.35,-2.005 -5.977,-2.378 ; -6.723,2.378 -6.35,2.005 -5.977,2.378 ; -4.183,-2.378 -3.81,-2.005 -3.437,-2.378 ; -4.183,2.378 -3.81,2.005 -3.437,2.378 ; -1.643,-2.378 -1.27,-2.005 -0.897,-2.378 ; -1.643,2.378 -1.27,2.005 -0.897,2.378 ; 0.897,-2.378 1.27,-2.005 1.643,-2.378 ; 0.897,2.378 1.27,2.005 1.643,2.378 ; 3.437,-2.378 3.81,-2.005 4.183,-2.378 ; 3.437,2.378 3.81,2.005 4.183,2.378 ; 5.977,-2.378 6.35,-2.005 6.723,-2.378 ; 5.977,2.378 6.35,2.005 6.723,2.378 ; 8.517,-2.378 8.89,-2.005 9.263,-2.378 ; 8.517,2.378 8.89,2.005 9.263,2.378 ; 11.057,-2.378 11.43,-2.005 11.803,-2.378 ; 11.057,2.378 11.43,2.005 11.803,2.378 ; 13.597,-2.378 13.97,-2.005 14.343,-2.378 ; 13.597,2.378 13.97,2.005 14.343,2.378 ; 16.137,-2.378 16.51,-2.005 16.883,-2.378 ; 16.137,2.378 16.51,2.005 16.883,2.378 ; 18.677,-2.378 19.05,-2.005 19.423,-2.378 ; 18.677,2.378 19.05,2.005 19.423,2.378 ; 21.217,-2.378 21.59,-2.005 21.963,-2.378 ; 21.217,2.378 21.59,2.005 21.963,2.378 ; 23.757,-2.378 24.13,-2.005 ; 23.857,2.378 24.23,2.005 ; 24.23,-1.905 24.23,-0.635 23.595,0 24.23,0.635 24.23,1.905
  text "1" at -24.83,1.8 h0.8
3D body "BB02-LE202-04.step": height 4.93, standoff -0.07, extent -4.027,-3.005 1.487,12.295
3D body "BB02-LE202-04.step": height 4.93, standoff -0.07, extent -9.107,-3.005 -3.593,12.295
3D body "BB02-LE202-04.step": height 4.93, standoff -0.07, extent -14.187,-3.005 -8.673,12.295
3D body "BB02-LE202-04.step": height 4.93, standoff -0.07, extent -19.267,-3.005 -13.753,12.295
3D body "BB02-LE202-04.step": height 4.93, standoff -0.07, extent -24.347,-3.005 -18.833,12.295
3D body "BB02-LE202-04.step": height 4.93, standoff -0.07, extent 1.053,-3.005 6.567,12.295
3D body "BB02-LE202-04.step": height 4.93, standoff -0.07, extent 6.133,-3.005 11.647,12.295
3D body "BB02-LE202-04.step": height 4.93, standoff -0.07, extent 11.213,-3.005 16.727,12.295
3D body "BB02-LE202-06.step": height 4.93, standoff -0.07, extent 16.293,-3.005 24.281,12.295

## HDRRS_F_2X20 [mm] "HEADER, 2.54mm, 2 Rows, Right Angle, Female, SMD"
pads (40):
  oval 1.5x3 smd: 1(-24.13,2.286) 2(-24.13,-2.286) 3(-21.59,2.286) 4(-21.59,-2.286) 5(-19.05,2.286) 6(-19.05,-2.286) 7(-16.51,2.286) 8(-16.51,-2.286) 9(-13.97,2.286) 10(-13.97,-2.286) 11(-11.43,2.286) 12(-11.43,-2.286) 13(-8.89,2.286) 14(-8.89,-2.286) 15(-6.35,2.286) 16(-6.35,-2.286) 17(-3.81,2.286) 18(-3.81,-2.286) 19(-1.27,2.286) 20(-1.27,-2.286) 21(1.27,2.286) 22(1.27,-2.286) 23(3.81,2.286) 24(3.81,-2.286) 25(6.35,2.286) 26(6.35,-2.286) 27(8.89,2.286) 28(8.89,-2.286) 29(11.43,2.286) 30(11.43,-2.286) 31(13.97,2.286) 32(13.97,-2.286) 33(16.51,2.286) 34(16.51,-2.286) 35(19.05,2.286) 36(19.05,-2.286) 37(21.59,2.286) 38(21.59,-2.286) 39(24.13,2.286) 40(24.13,-2.286)
Top Overlay:
  circle w0.2: c-25.3,2.8 r0.2
  lines w0.2: -25.5,-2.005 -25.127,-2.378 ; -25.5,-1.905 -25.5,-0.635 -24.865,0 -25.5,0.635 -25.5,1.905 ; -25.5,2.005 -25.127,2.378 ; -23.233,-2.378 -22.86,-2.005 -22.487,-2.378 ; -23.233,2.378 -22.86,2.005 -22.487,2.378 ; -20.693,-2.378 -20.32,-2.005 -19.947,-2.378 ; -20.693,2.378 -20.32,2.005 -19.947,2.378 ; -18.153,-2.378 -17.78,-2.005 -17.407,-2.378 ; -18.153,2.378 -17.78,2.005 -17.407,2.378 ; -15.613,-2.378 -15.24,-2.005 -14.867,-2.378 ; -15.613,2.378 -15.24,2.005 -14.867,2.378 ; -13.073,-2.378 -12.7,-2.005 -12.327,-2.378 ; -13.073,2.378 -12.7,2.005 -12.327,2.378 ; -10.533,-2.378 -10.16,-2.005 -9.787,-2.378 ; -10.533,2.378 -10.16,2.005 -9.787,2.378 ; -7.993,-2.378 -7.62,-2.005 -7.247,-2.378 ; -7.993,2.378 -7.62,2.005 -7.247,2.378 ; -5.453,-2.378 -5.08,-2.005 -4.707,-2.378 ; -5.453,2.378 -5.08,2.005 -4.707,2.378 ; -2.913,-2.378 -2.54,-2.005 -2.167,-2.378 ; -2.913,2.378 -2.54,2.005 -2.167,2.378 ; -0.373,-2.378 0,-2.005 0.373,-2.378 ; -0.373,2.378 0,2.005 0.373,2.378 ; 2.167,-2.378 2.54,-2.005 2.913,-2.378 ; 2.167,2.378 2.54,2.005 2.913,2.378 ; 4.707,-2.378 5.08,-2.005 5.453,-2.378 ; 4.707,2.378 5.08,2.005 5.453,2.378 ; 7.247,-2.378 7.62,-2.005 7.993,-2.378 ; 7.247,2.378 7.62,2.005 7.993,2.378 ; 9.787,-2.378 10.16,-2.005 10.533,-2.378 ; 9.787,2.378 10.16,2.005 10.533,2.378 ; 12.327,-2.378 12.7,-2.005 13.073,-2.378 ; 12.327,2.378 12.7,2.005 13.073,2.378 ; 14.867,-2.378 15.24,-2.005 15.613,-2.378 ; 14.867,2.378 15.24,2.005 15.613,2.378 ; 17.407,-2.378 17.78,-2.005 18.153,-2.378 ; 17.407,2.378 17.78,2.005 18.153,2.378 ; 19.947,-2.378 20.32,-2.005 20.693,-2.378 ; 19.947,2.378 20.32,2.005 20.693,2.378 ; 22.487,-2.378 22.86,-2.005 23.233,-2.378 ; 22.487,2.378 22.86,2.005 23.233,2.378 ; 25.027,-2.378 25.4,-2.005 ; 25.127,2.378 25.5,2.005 ; 25.5,-1.905 25.5,-0.635 24.865,0 25.5,0.635 25.5,1.905
  text "1" at -26.1,1.8 h0.8
3D body "BB02-LE202-04.step": height 4.93, standoff -0.07, extent -5.297,-3.005 0.217,12.295
3D body "BB02-LE202-04.step": height 4.93, standoff -0.07, extent -10.377,-3.005 -4.863,12.295
3D body "BB02-LE202-04.step": height 4.93, standoff -0.07, extent -15.457,-3.005 -9.943,12.295
3D body "BB02-LE202-04.step": height 4.93, standoff -0.07, extent -20.537,-3.005 -15.023,12.295
3D body "BB02-LE202-04.step": height 4.93, standoff -0.07, extent -25.617,-3.005 -20.103,12.295
3D body "BB02-LE202-04.step": height 4.93, standoff -0.07, extent -0.217,-3.005 5.297,12.295
3D body "BB02-LE202-04.step": height 4.93, standoff -0.07, extent 4.863,-3.005 10.377,12.295
3D body "BB02-LE202-04.step": height 4.93, standoff -0.07, extent 9.943,-3.005 15.457,12.295
3D body "BB02-LE202-04.step": height 4.93, standoff -0.07, extent 15.023,-3.005 20.537,12.295
3D body "BB02-LE202-04.step": height 4.93, standoff -0.07, extent 20.103,-3.005 25.617,12.295

## HDRRS_M_1X2 [mm] "Connector; Header; 2 Position, SMD edge"
height 1.8
pads (2):
  oval 1.4x4 smd mask+0.1: 1(-1.27,0) 2(1.27,0)
Top Overlay:
  circle w0.2: c-2.4,1.3 r0.2
  region: 1.04,2.1 1.04,3.4 1.54,3.4 1.54,2.1
  region: -1.5,2.1 -1.5,3.4 -1,3.4 -1,2.1
  lines w0.2: -1.6,6 -1.6,11.4 -1.4,11.9 -1.1,11.9 -0.9,11.4 ; -0.9,6 -0.9,11.4 ; 0.9,6 0.9,11.4 ; 1.6,6 1.6,11.4 1.4,11.9 1.1,11.9 0.9,11.4 ; -0.9,11.4 -0.9,11.4 ; 0,3.4 2.57,3.4 2.57,6 0,6 ; 0,3.4 -2.57,3.4 -2.57,6 0,6 ; 0,3.4 0,6 ; 0.9,11.4 0.9,11.4
3D body "HDR_M_1X2RASMD.step": height 3, standoff 0, extent -2.557,-1.5 2.357,11.7

## HDRRS_M_1X3 [mm] "Connector; Header; 3 Position"
pads (3):
  oval 1.4x4 smd mask+0.1: 1(-2.54,0) 2(0,0) 3(2.54,0)
Top Overlay:
  circle w0.2: c-3.8,1.3 r0.2
  region: -2.77,2.1 -2.77,3.4 -2.27,3.4 -2.27,2.1
  region: -0.23,2.1 -0.23,3.4 0.27,3.4 0.27,2.1
  region: 2.31,2.1 2.31,3.4 2.81,3.4 2.81,2.1
  lines w0.2: -2.87,6 -2.87,11.4 -2.67,11.9 -2.37,11.9 -2.17,11.4 ; -2.17,6 -2.17,11.4 ; -1.27,3.4 -3.84,3.4 -3.84,6 -1.27,6 ; -0.33,6 -0.33,11.4 -0.13,11.9 0.17,11.9 0.37,11.4 ; 0.37,6 0.37,11.4 ; 1.27,3.4 -1.3,3.4 -1.3,6 1.27,6 ; 2.21,6 2.21,11.4 2.41,11.9 2.71,11.9 2.91,11.4 ; 2.91,6 2.91,11.4 ; 3.81,3.4 1.24,3.4 1.24,6 3.81,6 ; -2.17,11.4 -2.17,11.4 ; 0.37,11.4 0.37,11.4 ; 2.91,11.4 2.91,11.4
3D body "HDR_M_1X3RASMD.step": height 3, standoff 0, extent -3.827,-1.5 3.811,11.7

## HDRRS_M_1X4 [mm] "Connector; Header; 4 Position"
pads (4):
  oval 1.4x4 smd mask+0.1: 1(-3.81,0) 2(-1.27,0) 3(1.27,0) 4(3.81,0)
Top Overlay:
  circle w0.2: c-5,0 r0.2
  region: 3.58,2.1 3.58,3.4 4.08,3.4 4.08,2.1
  region: 1.04,2.1 1.04,3.4 1.54,3.4 1.54,2.1
  region: -1.5,2.1 -1.5,3.4 -1,3.4 -1,2.1
  region: -4.04,2.1 -4.04,3.4 -3.54,3.4 -3.54,2.1
  lines w0.2: -4.14,6 -4.14,11.4 -3.94,11.9 -3.64,11.9 -3.44,11.4 ; -3.44,6 -3.44,11.4 ; -2.54,3.4 -5.11,3.4 -5.11,6 -2.54,6 ; -1.6,6 -1.6,11.4 -1.4,11.9 -1.1,11.9 -0.9,11.4 ; -0.9,6 -0.9,11.4 ; 0,3.4 -2.57,3.4 -2.57,6 0,6 ; 0.94,6 0.94,11.4 1.14,11.9 1.44,11.9 1.64,11.4 ; 1.64,6 1.64,11.4 ; 2.54,3.4 -0.03,3.4 -0.03,6 2.54,6 ; 3.48,6 3.48,11.4 3.68,11.9 3.98,11.9 4.18,11.4 ; 4.18,6 4.18,11.4 ; 5.08,3.4 2.51,3.4 2.51,6 5.08,6 ; -3.44,11.4 -3.44,11.4 ; -0.9,11.4 -0.9,11.4 ; 1.64,11.4 1.64,11.4 ; 4.18,11.4 4.18,11.4
3D body "HDR_M_1X4RASMD.STEP": height 3, standoff 0, extent -5.097,-1.5 5.063,11.7

## HDRRS_M_1X5 [mm] "Connector; Header; 5 Position"
pads (5):
  oval 1.4x4 smd mask+0.1: 1(-5.08,0) 2(-2.54,0) 3(0,0) 4(2.54,0) 5(5.08,0)
Top Overlay:
  circle w0.2: c-6.3,0 r0.2
  region: 4.85,2.1 4.85,3.4 5.35,3.4 5.35,2.1
  region: 2.31,2.1 2.31,3.4 2.81,3.4 2.81,2.1
  region: -0.23,2.1 -0.23,3.4 0.27,3.4 0.27,2.1
  region: -2.77,2.1 -2.77,3.4 -2.27,3.4 -2.27,2.1
  region: -5.31,2.1 -5.31,3.4 -4.81,3.4 -4.81,2.1
  lines w0.2: -5.41,6 -5.41,11.4 -5.21,11.9 -4.91,11.9 -4.71,11.4 ; -4.71,6 -4.71,11.4 ; -3.81,3.4 -6.38,3.4 -6.38,6 -3.81,6 ; -2.87,6 -2.87,11.4 -2.67,11.9 -2.37,11.9 -2.17,11.4 ; -2.17,6 -2.17,11.4 ; -1.27,3.4 -3.84,3.4 -3.84,6 -1.27,6 ; -0.33,6 -0.33,11.4 -0.13,11.9 0.17,11.9 0.37,11.4 ; 0.37,6 0.37,11.4 ; 1.27,3.4 -1.3,3.4 -1.3,6 1.27,6 ; 2.21,6 2.21,11.4 2.41,11.9 2.71,11.9 2.91,11.4 ; 2.91,6 2.91,11.4 ; 3.81,3.4 1.24,3.4 1.24,6 3.81,6 ; 4.75,6 4.75,11.4 4.95,11.9 5.25,11.9 5.45,11.4 ; 5.45,6 5.45,11.4 ; 6.35,3.4 3.78,3.4 3.78,6 6.35,6 ; -4.71,11.4 -4.71,11.4 ; -2.17,11.4 -2.17,11.4 ; 0.37,11.4 0.37,11.4 ; 2.91,11.4 2.91,11.4 ; 5.45,11.4 5.45,11.4
3D body "HDR_M_1X3RASMD.step": height 3, standoff 0, extent -1.287,-1.5 6.351,11.7
3D body "HDR_M_1X2RASMD.step": height 3, standoff 0, extent -6.367,-1.5 -1.453,11.7